# EAGLE library part FPC_0.5X24_CN (library pimoroni-connectors)
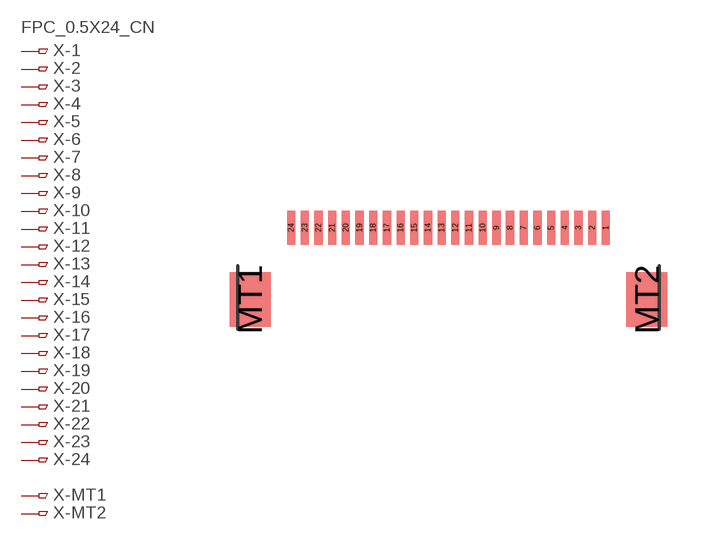
[diagram p8: symbol with the pads of FPC_0.5X24_CN; footprint FPC_0.5X24_CN]

Designator prefix X; gates -1=PINV -2=PIN -3=PIN -4=PIN -5=PIN -6=PIN -7=PIN -8=PIN -9=PIN -10=PIN -11=PIN -12=PIN -13=PIN -14=PIN -15=PIN -16=PIN -17=PIN -18=PIN -19=PIN -20=PIN -21=PIN -22=PIN -23=PIN -24=PIN -MT1=PIN -MT2=PIN

## FPC_0.5X24_CNH  [FPC_0.5X24_CN]
1  -1:1  pas
2  -2:1  pas
3  -3:1  pas
4  -4:1  pas
5  -5:1  pas
6  -6:1  pas
7  -7:1  pas
8  -8:1  pas
9  -9:1  pas
10  -10:1  pas
11  -11:1  pas
12  -12:1  pas
13  -13:1  pas
14  -14:1  pas
15  -15:1  pas
16  -16:1  pas
17  -17:1  pas
18  -18:1  pas
19  -19:1  pas
20  -20:1  pas
21  -21:1  pas
22  -22:1  pas
23  -23:1  pas
24  -24:1  pas
MT1  -MT1:1  pas
MT2  -MT2:1  pas

## Footprint FPC_0.5X24_CN (pad centres in mm)
smd 0.3 x 1.25: 1 5.75,0.625; 2 5.25,0.625; 3 4.75,0.625; 4 4.25,0.625; 5 3.75,0.625; 6 3.25,0.625; 7 2.75,0.625; 8 2.25,0.625; 9 1.75,0.625; 10 1.25,0.625; 11 0.75,0.625; 12 0.25,0.625; 13 -0.25,0.625; 14 -0.75,0.625; 15 -1.25,0.625; 16 -1.75,0.625; 17 -2.25,0.625; 18 -2.75,0.625; 19 -3.25,0.625; 20 -3.75,0.625; 21 -4.25,0.625; 22 -4.75,0.625; 23 -5.25,0.625; 24 -5.75,0.625
smd 1.5 x 2: MT1 -7.25,-2; MT2 7.25,-2